# Altium footprint library SOT23-3P95_240X120L22X48N.PcbLib: 1 footprints
Each footprint in its own frame and in the unit in brackets; x right, y up, seen from the top. Pads: shape width x height; smd on the part's side, far side on the other; paste and mask are expansions set on the pad; w line width, h text height; cw(c..) or ccw(c..) is an arc to the next point about the centre after c.
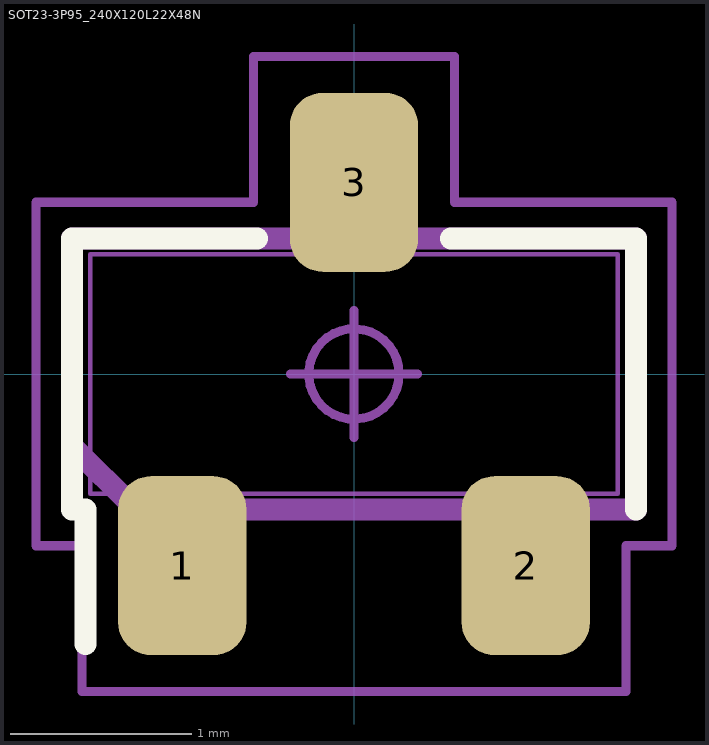
[diagram p0: the footprint, top view; thin cyan lines are the x and y axes]

## SOT23-3P95_240X120L22X48N [mm] "Small Outline Transistor (SOT23), 0.95 mm pitch; 3 pin, 2.92 mm L X 1.325 mm W X 1.20 mm H body"
height 1.2
pads (3):
  rrect51% 0.71x0.99 smd: 1(-0.95,-1.06) 2(0.95,-1.06) 3(0,1.06)
Top Overlay:
  lines w0.12: -1.56,-0.75 -1.56,0.75 -0.535,0.75 ; -1.485,-1.495 -1.485,-0.75 ; 0.535,0.75 1.56,0.75 1.56,-0.75
Mechanical 3:
  lines w0.12: -1.56,-0.396 -1.206,-0.75 1.56,-0.75 1.56,0.75 -1.56,0.75 -1.56,-0.396
Mechanical 5:
  lines w0.025: -1.46,-0.663 1.46,-0.663 1.46,0.663 -1.46,0.663 -1.46,-0.663 ; -1.192,-1.2 -1.192,-0.975 -0.707,-0.975 -0.707,-1.2 -1.192,-1.2 ; -0.242,0.975 -0.242,1.2 0.242,1.2 0.242,0.975 -0.242,0.975 ; 0.707,-1.2 0.707,-0.975 1.192,-0.975 1.192,-1.2 0.707,-1.2
Mechanical 7:
  circle w0.05: c0,0 r0.25
  lines w0.05: -0.35,0 0.35,0 ; 0,-0.35 0,0.35 ; -1.76,-0.95 -1.505,-0.95 -1.505,-1.755 1.505,-1.755 1.505,-0.95 1.76,-0.95 1.76,0.95 0.555,0.95 0.555,1.755 -0.555,1.755 -0.555,0.95 -1.76,0.95 -1.76,-0.95
Mechanical 9:
  text "'.Designator'" at -5.283,-0.305 h1
3D body: height 0.03, standoff 0, extent -1.753,-1.753 1.753,1.753
3D body: height 0.03, standoff 0, extent -1.753,-1.727 -1.499,0.94
3D body: height 0.03, standoff 0, extent -1.753,-1.753 1.753,1.753
3D body "SOT23-3P95_240X120L22X48.STEP": height 1.28, standoff 0, extent -1.46,-1.2 1.46,1.2
3D body: height 1.04, standoff 0, extent -1.76,-1.755 1.76,1.755